# Altium schematic symbol library Actives.SchLib: 21 symbols
Pins are listed as number, name and electrical type; pins without a type are passive.

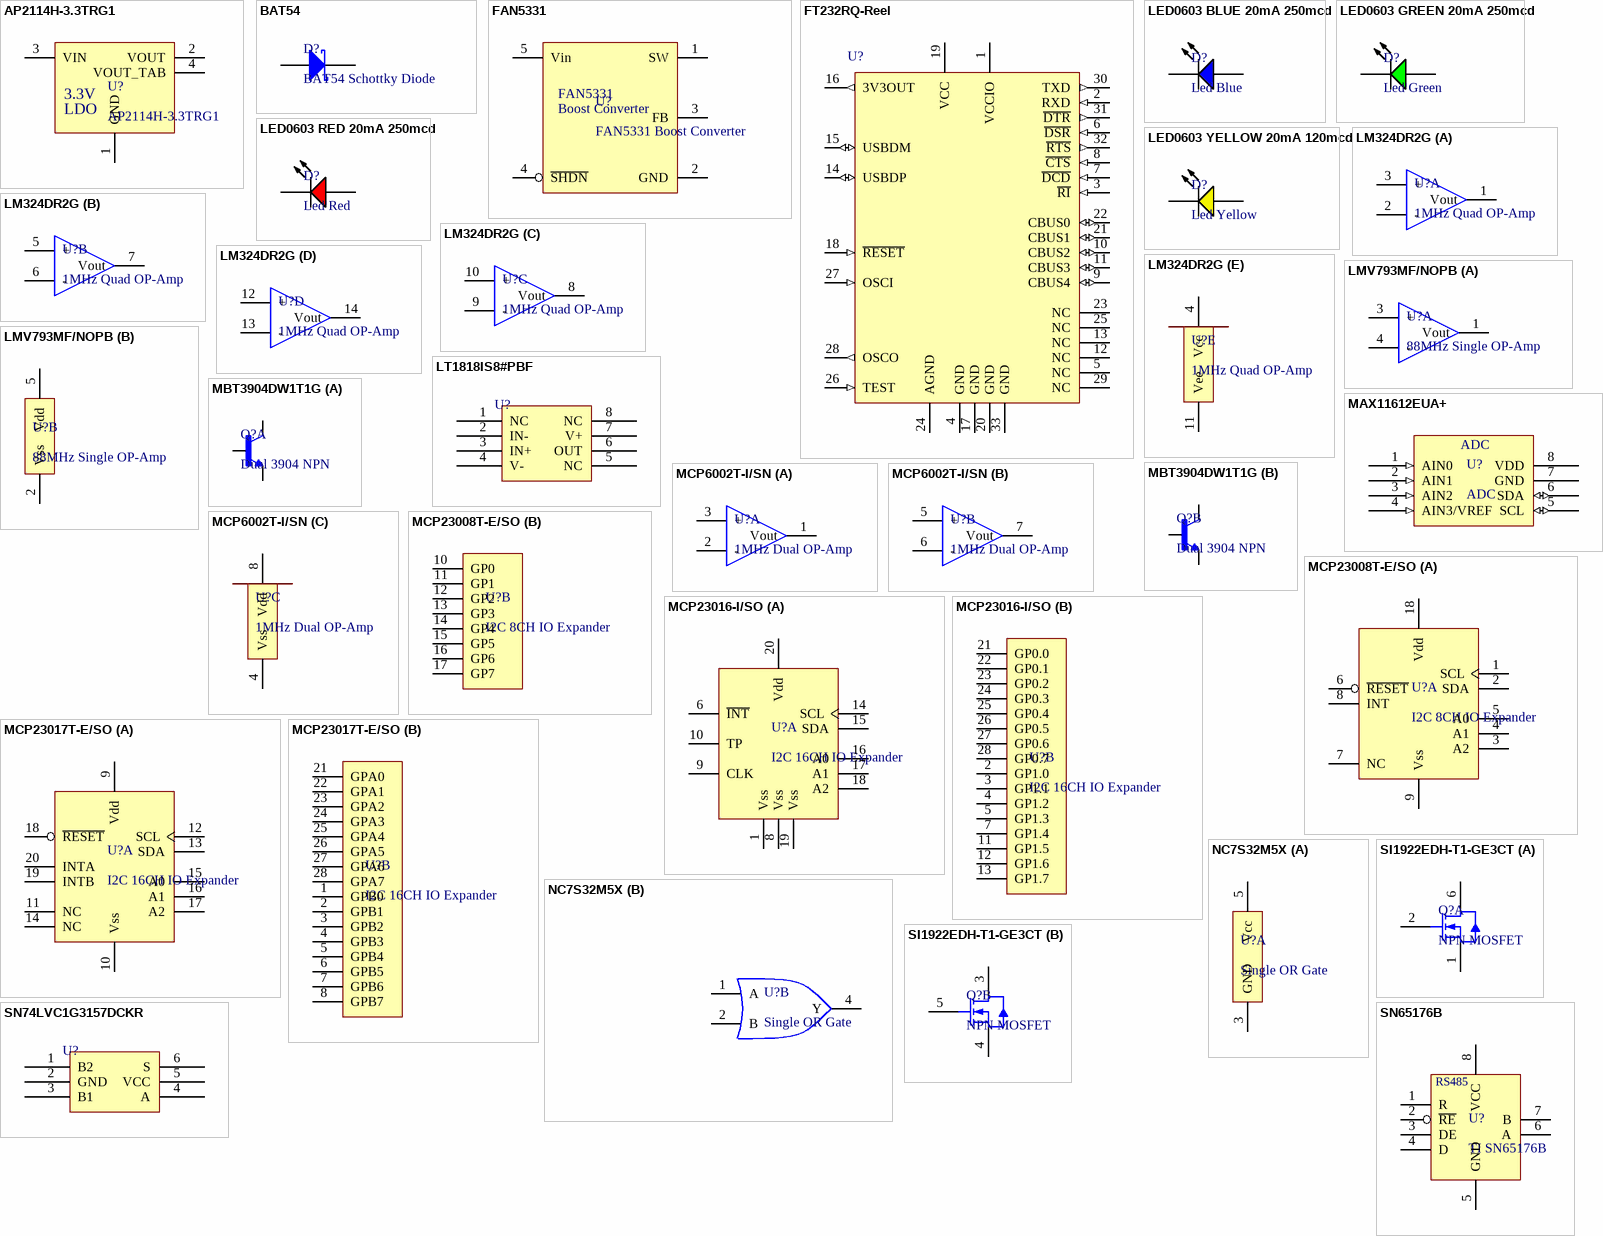
[diagram p0: symbols AP2114H-3.3TRG1 to SN65176B]

## AP2114H-3.3TRG1
designator U?
AP2114 3.3V Fixed LDO Regulator; Supplier 1: Digi-Key; Supplier Part Number 1: AP2114H-3.3TRG1DICT-ND
footprint SOT230P700X180-4L (SOT223, 4-Leads, Body 6.50x7.00mm (avg), Pitch 2.30mm, IPC High Density)
pins: 1 GND, 2 VOUT, 3 VIN, 4 VOUT_TAB
text: 3.3V; LDO

## BAT54
designator D?, comment BAT54 Schottky Diode
ON Semi BAT54 800mV Schottky Diode; Vr: 30V; Vf: 800mV; Supplier 1: Digi-Key; Supplier 2: Mouser; Supplier Part Number 1: BAT54SLT1GOSCT-ND; Supplier Part Number 2: 512-BAT54
footprint SOT95P240X120-3L - ON Semi (SOT23, 3-Leads, Body 2.92x2.40mm, Pitch 0.95mm, IPC High Density)
pins: 1 A, 3 K

## FAN5331
designator U?, comment FAN5331 Boost Converter
ON Semi FAN5531 Boost Converter; Supplier 1: Digi-Key; Supplier 2: Mouser; Supplier Part Number 1: FAN5331SXCT-ND; Supplier Part Number 2: 512-FAN5331SX
footprint SOT95P280X145-5L - ON Semi (SOT23, 5-Leads, Body 2.90x2.80mm, Pitch 0.95mm, IPC High Density)
pins: 1 SW, 2 GND, 3 FB, 4 ~{SHDN}, 5 Vin
text: Boost Converter

## FT232RQ-Reel
designator U?
USB UART Asynchronous Serial Data Transfer Chip, 32-pin QFN, Tape and Reel; Manufacturer: FTDI; PartNumber: FT232RQ-Reel; DatasheetVersion: ver 2.10, Mar-2012; PackageVersion: Mar-12; PackageReference: PQFN5X5-32; PackageDescription: 32-Pin Quad Flat No-Lead 0.5 mm Pitch, Pullback, 3.2 x 3.2 mm Exposed Pad; ComponentLink1Description: Manufacturer URL; ComponentLink1URL: http://www.ftdichip.com/; ComponentLink2Description: Datasheet; ComponentLink2URL: http://www.ftdichip.com/Support/Documents/DataSheets/ICs/DS_FT232R.pdf
footprint PQFN5X5-32_V_FTDI_BIG_VIAS (QFN, 32-Leads, Body 5x5mm, Pitch 0.5mm, Thermal Pad 3.3x3.3mm, FTDI Recommended)
footprint PQFN5X5-32_V_FTDI_BIG_VIAS_LEADS (QFN, 32-Leads, Body 5x5mm, Pitch 0.5mm, Thermal Pad 3.3x3.3mm, FTDI Recommended)
pins: 1 VCCIO (power), 2 RXD (in), 3 ~{RI} (in), 4 GND (power), 5 NC, 6 ~{DSR} (in), 7 ~{DCD} (in), 8 ~{CTS} (in), 9 CBUS4 (io), 10 CBUS2 (io), 11 CBUS3 (io), 12 NC, 13 NC, 14 USBDP (io), 15 USBDM (io), 16 3V3OUT (out), 17 GND (power), 18 ~{RESET} (in), 19 VCC (power), 20 GND (power), 21 CBUS1 (io), 22 CBUS0 (io), 23 NC, 24 AGND (power), 25 NC, 26 TEST (in), 27 OSCI (in), 28 OSCO (out), 29 NC, 30 TXD (out), 31 ~{DTR} (out), 32 ~{RTS} (out), 33 GND (power)

## LED0603 BLUE 20mA 250mcd
designator D?, comment Led Blue
LED BLUE CLEAR 0603 SMD 145 mcd; Supplier 1: Digi-Key; Supplier Part Number 1: 732-4966-6-ND
footprint LED-0603-BLUE .7MM TALL (Chip Diode, 2-Leads, Body 1.60x0.80mm, IPC High Density)
pins: A, K

## LED0603 GREEN 20mA 250mcd
designator D?, comment Led Green
LED GREEN CLEAR 0603 SMD 430 mcd; Supplier 1: Digi-Key; Supplier Part Number 1: 732-4971-6-ND
footprint LED-0603-GREEN .7MM TALL (Chip Diode, 2-Leads, Body 1.60x0.80mm, IPC High Density)
pins: A, K

## LED0603 RED 20mA 250mcd
designator D?, comment Led Red
LED RED CLEAR 0603 SMD 250 mcd; Supplier 1: Digi-Key; Supplier Part Number 1: 732-4978-1-ND
footprint LED-0603-RED .7MM TALL (Chip Diode, 2-Leads, Body 1.60x0.80mm, IPC High Density)
pins: A, K

## LED0603 YELLOW 20mA 120mcd
designator D?, comment Led Yellow
LED YELLOW CLEAR 0603 SMD 120 mcd; Supplier 1: Digi-Key; Supplier Part Number 1: 732-5000-6-ND
footprint LED-0603-YELLOW .7MM TALL (Chip Diode, 2-Leads, Body 1.60x0.80mm, IPC High Density)
pins: A, K

## LM324DR2G
designator U?, comment 1MHz Quad OP-Amp
ON Semi LM324DR2G 1MHz Quad OP-Amp; Supplier 1: Digi-Key; Supplier Part Number 1: LM324DR2GOSCT-ND
footprint SOIC127P600X175-14L (SOIC, 14-Leads, Body 8.65x3.90mm, Pitch 1.27mm, IPC High Density)
part A pins: 1 Vout, 2 -, 3 +
part B pins: 5 +, 6 -, 7 Vout
part C pins: 8 Vout, 9 -, 10 +
part D pins: 12 +, 13 -, 14 Vout
part E pins: 4 Vcc, 11 Vee

## LMV793MF/NOPB
designator U?, comment 88MHz Single OP-Amp
TI LMV793MF/NOPB 88MHz Single OP-Amp; Slew Rate: 35 V/us; Bandwidth: 88MHz; Supplier 1: Digi-Key; Supplier Part Number 1: LMV793MF/NOPBCT-ND
footprint SOT95P280X145-5L (SOT23, 5-Leads, Body 2.90x2.80mm, Pitch 0.95mm, IPC High Density)
part A pins: 1 Vout, 3 +, 4 -
part B pins: 2 Vss, 5 Vdd

## LT1818IS8#PBF
designator U?  (value not drawn)
IC OPAMP VFB 400MHZ 8SO; Manufacturer: Linear Technology; Manufacturer Part Number: LT1818IS8#PBF; Unity Gain Bandwidth Product: 360MHz; Common Mode Rejection Ratio: 73dB; Min Dual Supply Voltage: 1.75V; Max Dual Supply Voltage: 6.3V; Slew Rate: 2500V/µs; Max Supply Voltage: 12.6V; Min Supply Voltage: 3.5V; Number of Circuits: 1; Input Bias Current: 2uA; Input Offset Voltage (Vos): 1.5mV; Operating Supply Current: 9mA; Output Current per Channel: 70mA; Voltage Gain: 72.04dB; Power Supply Rejection Ratio (PSRR): 78dB; Supplier 1: Digi-Key; Stock 1: 576; Pricing 1: 1=2.36, 25=1.6728, 100=1.377 (USD); Case/Package: SOIC; Number of Pins: 8; Min Operating Temperature: -40°C; Max Operating Temperature: 85°C; Package Quantity: 100; Packaging: Rail/Tube; Nominal Gain Bandwidth Product: 400MHz; Gain Bandwidth Product: 400MHz; Number of Elements: 1; Number of Channels: 1; Lead Free: Lead Free; ComponentLink1URL: https://datasheet.ciiva.com/1805/1191-1805828.pdf; ComponentLink1Description: https://datasheet.ciiva.com/1805/1191-1805828.pdf; Supplier Part Number 1: LT1818IS8#PBF-ND
footprint SOIC127P600X175-8N (SOIC, 8-Leads, Body 4.90x3.90mm, Pitch 1.27mm, IPC Medium Density)
pins: 1 NC, 2 IN-, 3 IN+, 4 V-, 5 NC, 6 OUT, 7 V+, 8 NC

## MAX11612EUA+
designator U?, comment ADC
IC ADC I2C/SRL 12BIT 4CH 8UMAX; URL: https://www.digikey.com/product-detail/en/maxim-integrated/MAX11612EUA-/MAX11612EUA--ND/2061925; Supplier 1: Digi-Key; Supplier Part Number 1: MAX11612EUA+-ND
footprint 8L uMAX/uSOP TSOP65P490X110-8L (TSOP, 8-Leads, Body 3.00x3.00mm, Pitch 0.65mm, IPC High Density)
pins: 1 AIN0 (in), 2 AIN1 (in), 3 AIN2 (in), 4 AIN3/VREF (in), 5 SCL (io), 6 SDA (io), 7 GND (power), 8 VDD (power)

## MBT3904DW1T1G
designator Q?, comment Dual 3904 NPN
3904 Dual NPN Transistor; Supplier 1: Digi-Key; Supplier 2: Mouser; Supplier Part Number 1: MBT3904DW1T1GOSCT-ND; Supplier Part Number 2: 863-SMBT3904DW1T1G
footprint SOT65P210X110-6L (SOT23, 6-Leads, Body 2.00x2.10mm, Pitch 0.65mm, IPC High Density)
part A pins: 3 C1, 4 E1, 5 B1
part B pins: 1 E2, 2 B2, 6 C2

## MCP6002T-I/SN
designator U?, comment 1MHz Dual OP-Amp
Supplier 1: Digi-Key; Supplier Part Number 1: MCP6002T-I/SNCT-ND
footprint SOIC127P600X175-8L (SOIC, 8-Leads, Body 4.90x3.90mm, Pitch 1.27mm, IPC High Density)
part A pins: 1 Vout, 2 -, 3 +
part B pins: 5 +, 6 -, 7 Vout
part C pins: 4 Vss, 8 Vdd

## MCP23008T-E/SO
designator U?, comment I2C 8CH IO Expander
Microchip MCP23008 I2C 8CH IO Expander; Supplier 1: Digi-Key; Supplier 2: Mouser; Supplier Part Number 1: MCP23008T-E/SOCT-ND; Supplier Part Number 2: 579-MCP23008-E/SO
footprint SOIC127P1030X265-18L (SOIC, 18-Leads, Body 11.50x7.50mm, Pitch 1.27mm, IPC High Density)
part A pins: 1 SCL, 2 SDA, 3 A2, 4 A1, 5 A0, 6 ~{RESET}, 7 NC, 8 INT, 9 Vss, 18 Vdd
part B pins: 10 GP0, 11 GP1, 12 GP2, 13 GP3, 14 GP4, 15 GP5, 16 GP6, 17 GP7

## MCP23016-I/SO
designator U?, comment I2C 16CH IO Expander
Microchip MCP23016 I2C 16CH IO Expander; Supplier 1: Digi-Key; Supplier Part Number 1: MCP23016-I/SO-ND
footprint SOIC127P1030X265-28L (SOIC, 28-Leads, Body 17.90x7.50mm, Pitch 1.27mm, IPC High Density)
part A pins: 1 Vss, 6 ~{INT}, 8 Vss, 9 CLK, 10 TP, 14 SCL, 15 SDA, 16 A0, 17 A1, 18 A2, 19 Vss, 20 Vdd
part B pins: 2 GP1.0, 3 GP1.1, 4 GP1.2, 5 GP1.3, 7 GP1.4, 11 GP1.5, 12 GP1.6, 13 GP1.7, 21 GP0.0, 22 GP0.1, 23 GP0.2, 24 GP0.3, 25 GP0.4, 26 GP0.5, 27 GP0.6, 28 GP0.7

## MCP23017T-E/SO
designator U?, comment I2C 16CH IO Expander
Microchip MCP23017 I2C 16CH IO Expander; Supplier 1: Digi-Key; Supplier Part Number 1: MCP23017T-E/SOCT-ND
footprint SOIC127P1030X265-28L (SOIC, 28-Leads, Body 17.90x7.50mm, Pitch 1.27mm, IPC High Density)
part A pins: 9 Vdd, 10 Vss, 11 NC, 12 SCL, 13 SDA, 14 NC, 15 A0, 16 A1, 17 A2, 18 ~{RESET}, 19 INTB, 20 INTA
part B pins: 1 GPB0, 2 GPB1, 3 GPB2, 4 GPB3, 5 GPB4, 6 GPB5, 7 GPB6, 8 GPB7, 21 GPA0, 22 GPA1, 23 GPA2, 24 GPA3, 25 GPA4, 26 GPA5, 27 GPA6, 28 GPA7

## NC7S32M5X
designator U?, comment Single OR Gate
Fairchild/ON Semi NC7S32M5X Single OR Gate; Supplier 1: Digi-Key; Supplier Part Number 1: NC7S32M5XCT-ND
footprint SOT95P280X140-5L (SOT23, 5-Leads, Body 2.90x2.80mm, Pitch 0.95mm, IPC High Density)
part A pins: 3 GND, 5 Vcc
part B pins: 1 A, 2 B, 4 Y

## SI1922EDH-T1-GE3CT
designator Q?, comment NPN MOSFET
2N-CH NPN MOSFET 20V 1.3A SOT-363; Supplier 1: Digi-Key; Supplier Part Number 1: SI1922EDH-T1-GE3CT-ND
footprint SC-70-6  (SOT-363) (TSOP, 6-Leads, Body 2.00x1.25mm, Pitch 0.65mm, IPC High Density)
part A pins: 1 S1 (power), 2 G1, 6 D1 (power)
part B pins: 3 D2 (power), 4 S2 (power), 5 G2

## SN74LVC1G3157DCKR
designator U?  (value not drawn)
IC, SWITCH, SPDT ANA, SMD; Manufacturer: Texas Instruments; Manufacturer Part Number: SN74LVC1G3157DCKR; Min Supply Voltage: 1.65V; Max Supply Voltage: 5.5V; Number of Channels: 1; Bandwidth: 300MHz; Number of Outputs: 2; Nominal Supply Current: 10uA; On-State Resistance: 15R; Operating Supply Current: 1uA; Turn-On Delay Time: 5.7ns; Turn-Off Delay Time: 3.8ns; Supply Type: Single; Propagation Delay: 300ps; Polarity: Non-Inverting; Low Level Output Current: 128mA; Supplier 1: Avnet; Stock 1: 76000; Pricing 1: 1=0.29612, 30=0.2755, 75=0.21727, 150=0.1881, 375=0.15656, 3000=0.07742, 6000=0.07106, 12000=0.07058, 18000=0.07011, 30000=0.05947 (USD); Mount: Surface Mount; Case/Package: SC; Number of Pins: 6; Weight: 8.8E-05oz; Contact Plating: Gold; Min Operating Temperature: -40°C; Max Operating Temperature: 125°C; Packaging: Tape and Reel; Number of Inputs: 1; Package Quantity: 3000; Max Supply Current: 10uA; Termination: SMD/SMT; Throw Configuration: SPDT; Number of Bits: 1; High Level Output Current: 128mA; Length: 2mm; Height: 0.9mm; Width: 1.25mm; Radiation Hardening: No; REACH SVHC: No SVHC; Lead Free: Lead Free; ComponentLink1URL: https://datasheet.ciiva.com/1669/sn74lvc1g3157-1669380.pdf; ComponentLink1Description: https://datasheet.ciiva.com/1669/sn74lvc1g3157-1669380.pdf; ComponentLink2URL: https://datasheet.ciiva.com/1514/1857156-1514549.pdf; ComponentLink2Description: https://datasheet.ciiva.com/1514/1857156-1514549.pdf; ComponentLink3URL: https://datasheet.ciiva.com/1669/sn74lvc1g3157-1669381.pdf; ComponentLink3Description: https://datasheet.ciiva.com/1669/sn74lvc1g3157-1669381.pdf; ComponentLink4URL: https://datasheet.ciiva.com/14435/sn74lvc1g3157-14435733.pdf; ComponentLink4Description: https://datasheet.ciiva.com/14435/sn74lvc1g3157-14435733.pdf; ComponentLink5URL: https://datasheet.ciiva.com/34301/756764-34301477.pdf; ComponentLink5Description: https://datasheet.ciiva.com/34301/756764-34301477.pdf; ComponentLink6URL: https://datasheet.ciiva.com/1514/1857156-1514550.pdf; ComponentLink6Description: https://datasheet.ciiva.com/1514/1857156-1514550.pdf; ComponentLink7URL: https://datasheet.ciiva.com/1669/sn74lvc1g3157-1669382.pdf; ComponentLink7Description: https://datasheet.ciiva.com/1669/sn74lvc1g3157-1669382.pdf; ComponentLink8URL: https://datasheet.ciiva.com/46411/1786793-46411528.pdf; ComponentLink8Description: https://datasheet.ciiva.com/46411/1786793-46411528.pdf; ComponentLink9URL: https://datasheet.ciiva.com/16539/sn74lvc1g3157-16539371.pdf; ComponentLink9Description: https://datasheet.ciiva.com/16539/sn74lvc1g3157-16539371.pdf; ComponentLink10URL: https://datasheet.ciiva.com/15127/getdatasheetpartid-187022-15127388.pdf; ComponentLink10Description: https://datasheet.ciiva.com/15127/getdatasheetpartid-187022-15127388.pdf; ComponentLink11URL: https://datasheet.ciiva.com/41461/001187224-da-01-en-ic-switch-sn74lvc1g3157dckr-sc-70-6-tid-41461882.pdf; ComponentLink11Description: https://datasheet.ciiva.com/41461/001187224-da-01-en-ic-switch-sn74lvc1g3157dckr-sc-70-6-tid-41461882.pdf; Supplier Part Number 1: SN74LVC1G3157DCKR/BKN
footprint SC-70-6  (SOT-363) (TSOP, 6-Leads, Body 2.00x1.25mm, Pitch 0.65mm, IPC High Density)
pins: 1 B2, 2 GND, 3 B1, 4 A, 5 VCC, 6 S

## SN65176B
designator U?, comment TI SN65176B
Half Duplex RS485 Tranceiver; Supplier 1: Digi-Key; Supplier 2: Mouser; Supplier Part Number 1: 296-14636-1-ND; Supplier Part Number 2: 595-SN65176BDR
footprint SOIC127P600X175-8L (SOIC, 8-Leads, Body 4.90x3.90mm, Pitch 1.27mm, IPC High Density)
pins: 1 R "Receiver Bit", 2 ~{RE} "Receiver Enable", 3 DE "Driver Enable", 4 D "Driver Bit", 5 GND, 6 A, 7 B, 8 VCC
text: RS485